# Altium footprint library Capacitor Tantalum Radial Bead.PcbLib: 37 footprints (part 2 of 3)
Each footprint in its own frame and in the unit in brackets; x right, y up, seen from the top. Pads: shape width x height; smd on the part's side, far side on the other; paste and mask are expansions set on the pad; w line width, h text height; cw(c..) or ccw(c..) is an arc to the next point about the centre after c.
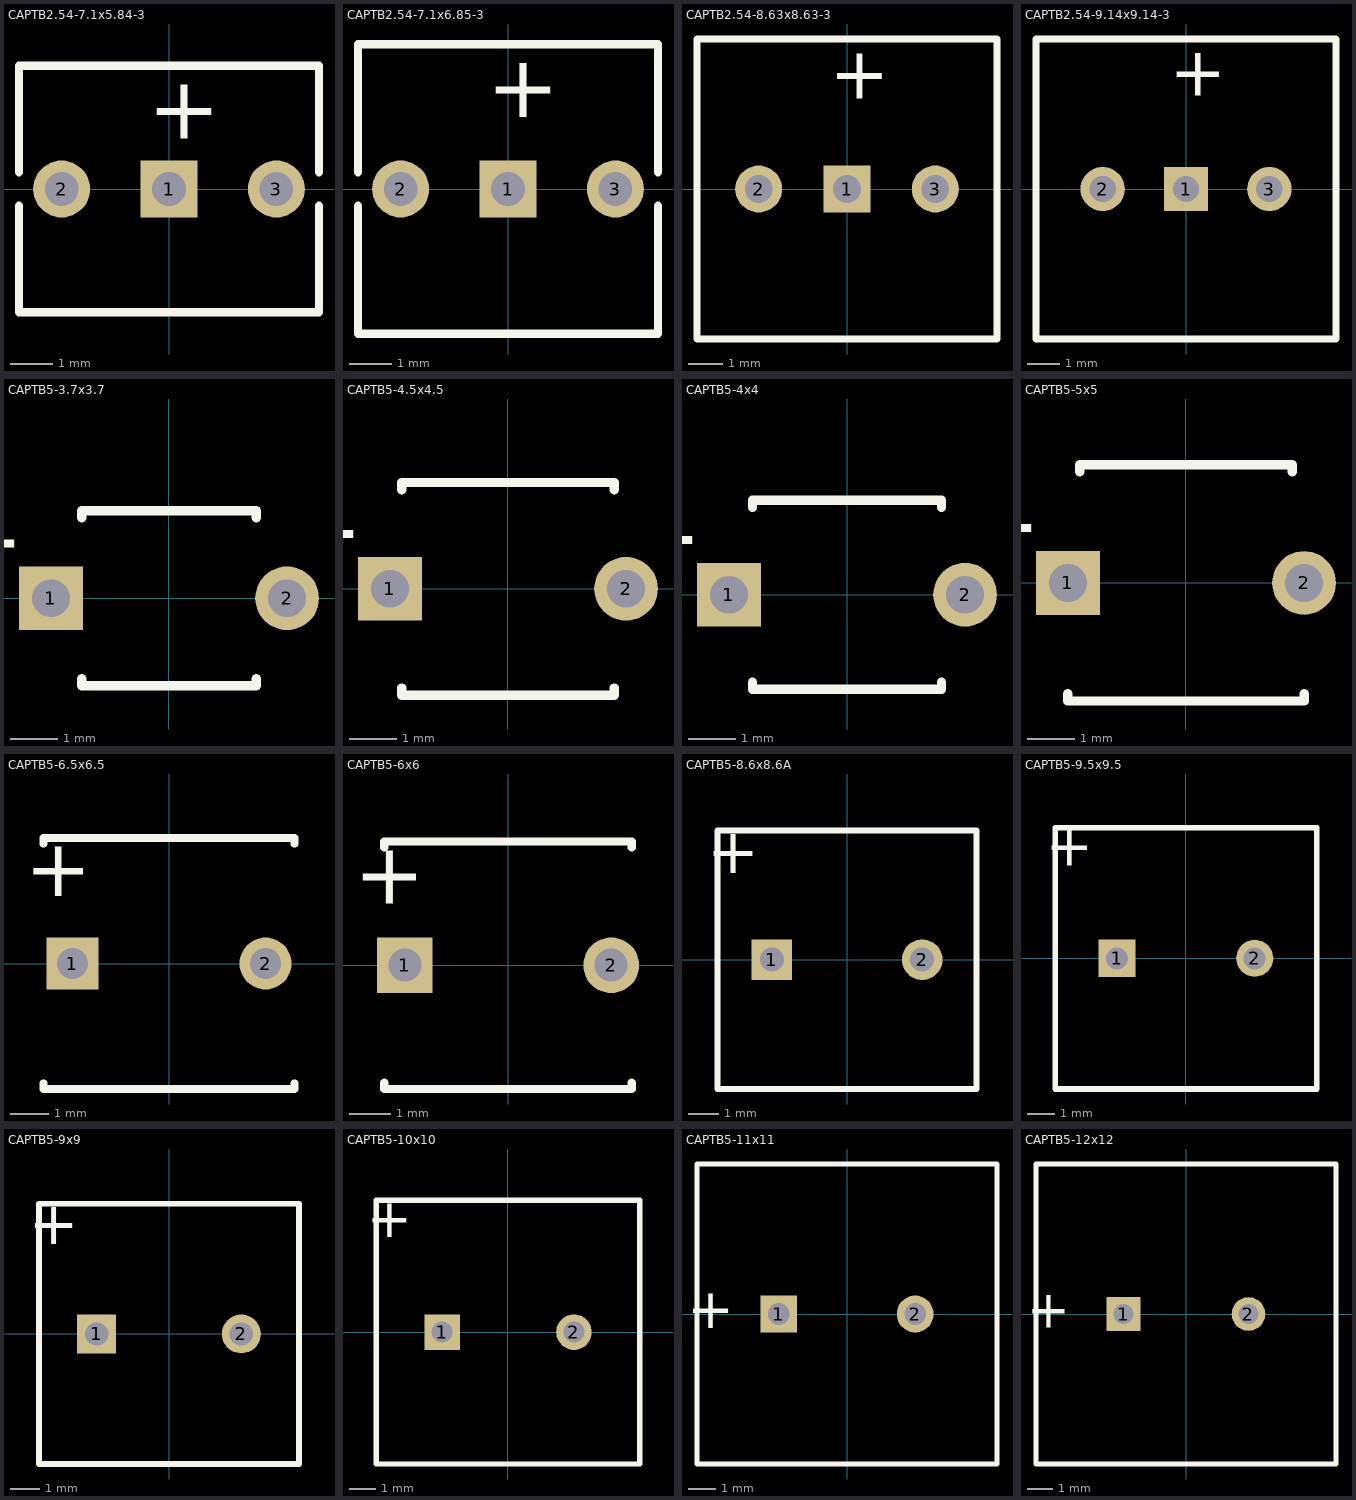
[diagram p1: the footprints below, top view; thin cyan lines are the x and y axes]

## CAPTB2.54-7.1x5.84-3 [mm] "Capacitor, Tantalum Bead, Triple Lead; Body 7.1 x 5.84 x 9.65 mm (WxTxH max); Pin Spacing 2.54 mm (typ)"
height 9.65
pads (3):
  rect 1.35x1.35 hole 0.8: 1(0,0)
  round 1.35 hole 0.8: 2(-2.54,0) 3(2.54,0)
Top Overlay:
  lines w0.2: -3.55,-0.4 -3.55,-2.92 3.55,-2.92 3.55,-0.4 ; -3.55,0.4 -3.55,2.92 3.55,2.92 3.55,0.4
  text "+" at -0.5,1.19 h1.5

## CAPTB2.54-7.1x6.85-3 [mm] "Capacitor, Tantalum Bead, Triple Lead; Body 7.1 x 6.85 x 11.17 mm (WxTxH max); Pin Spacing 2.54 mm (typ)"
height 11.17
pads (3):
  rect 1.35x1.35 hole 0.8: 1(0,0)
  round 1.35 hole 0.8: 2(-2.54,0) 3(2.54,0)
Top Overlay:
  lines w0.2: -3.55,-0.4 -3.55,-3.425 3.55,-3.425 3.55,-0.4 ; -3.55,0.4 -3.55,3.425 3.55,3.425 3.55,0.4
  text "+" at -0.5,1.7 h1.5

## CAPTB2.54-8.63x8.63-3 [mm] "Capacitor, Tantalum Bead, Triple Lead; Body 8.63 x 8.63 x 14.22 mm (WxTxH max); Pin Spacing 2.54 mm (typ)"
height 14.22
pads (3):
  rect 1.35x1.35 hole 0.8: 1(0,0)
  round 1.35 hole 0.8: 2(-2.54,0) 3(2.54,0)
Top Overlay:
  lines w0.2: -4.315,-4.315 4.315,-4.315 4.315,4.315 -4.315,4.315 -4.315,-4.315
  text "+" at -0.5,2.59 h1.5

## CAPTB2.54-9.14x9.14-3 [mm] "Capacitor, Tantalum Bead, Triple Lead; Body 9.14 x 9.14 x 15.74 mm (WxTxH max); Pin Spacing 2.54 mm (typ)"
height 15.74
pads (3):
  rect 1.35x1.35 hole 0.8: 1(0,0)
  round 1.35 hole 0.8: 2(-2.54,0) 3(2.54,0)
Top Overlay:
  lines w0.2: -4.57,-4.57 -4.57,4.57 4.57,4.57 4.57,-4.57 -4.57,-4.57
  text "+" at -0.499,2.84 h1.5

## CAPTB5-3.7x3.7 [mm] "Capacitor, Tantalum Bead; Body 3.7 x 9.5 mm (Dia.xH max); Pin Spacing 5.0 mm (typ)"
height 9.5
pads (2):
  rect 1.35x1.35 hole 0.8: 1(-2.5,0)
  round 1.35 hole 0.8: 2(2.5,0)
Top Overlay:
  lines w0.2: -1.85,-1.7 -1.85,-1.85 1.85,-1.85 1.85,-1.7 ; -1.85,1.7 -1.85,1.85 1.85,1.85 1.85,1.7
  text "+" at -3.05,1.8 h1.5

## CAPTB5-4.5x4.5 [mm] "Capacitor, Tantalum Bead; Body 4.5 x 10.5 mm (Dia.xH max); Pin Spacing 5.0 mm (typ)"
height 10.5
pads (2):
  rect 1.35x1.35 hole 0.8: 1(-2.5,0)
  round 1.35 hole 0.8: 2(2.5,0)
Top Overlay:
  lines w0.2: -2.25,-2.1 -2.25,-2.25 2.25,-2.25 2.25,-2.1 ; -2.25,2.1 -2.25,2.25 2.25,2.25 2.25,2.1
  text "+" at -3.05,1.8 h1.5

## CAPTB5-4x4 [mm] "Capacitor, Tantalum Bead; Body 4 x 10 mm (Dia.xH max); Pin Spacing 5.0 mm (typ)"
height 10
pads (2):
  rect 1.35x1.35 hole 0.8: 1(-2.5,0)
  round 1.35 hole 0.8: 2(2.5,0)
Top Overlay:
  lines w0.2: -2,-1.85 -2,-2 2,-2 2,-1.85 ; -2,1.85 -2,2 2,2 2,1.85
  text "+" at -3.05,1.8 h1.5

## CAPTB5-5x5 [mm] "Capacitor, Tantalum Bead; Body 5 x 11.5 mm (Dia.xH max); Pin Spacing 5.0 mm (typ)"
height 11.5
pads (2):
  rect 1.35x1.35 hole 0.8: 1(-2.5,0)
  round 1.35 hole 0.8: 2(2.5,0)
Top Overlay:
  lines w0.2: -2.5,-2.35 -2.5,-2.5 2.5,-2.5 2.5,-2.35 ; -2.25,2.35 -2.25,2.5 2.25,2.5 2.25,2.35
  text "+" at -3.05,1.8 h1.5

## CAPTB5-6.5x6.5 [mm] "Capacitor, Tantalum Bead; Body 6.5 x 12 mm (Dia.xH max); Pin Spacing 2.5 mm (typ)"
height 12
pads (2):
  rect 1.35x1.35 hole 0.8: 1(-2.5,0)
  round 1.35 hole 0.8: 2(2.5,0)
Top Overlay:
  lines w0.2: -3.25,-3.1 -3.25,-3.25 3.25,-3.25 3.25,-3.1 ; -3.25,3.1 -3.25,3.25 3.25,3.25 3.25,3.1
  text "+" at -2,3.02 h1.5

## CAPTB5-6x6 [mm] "Capacitor, Tantalum Bead; Body 6 x 11 mm (Dia.xH max); Pin Spacing 2.5 mm (typ)"
height 11
pads (2):
  rect 1.35x1.35 hole 0.8: 1(-2.5,0)
  round 1.35 hole 0.8: 2(2.5,0)
Top Overlay:
  lines w0.2: -3,-2.85 -3,-3 3,-3 3,-2.85 ; -3,2.85 -3,3 3,3 3,2.85
  text "+" at -2,2.77 h1.5

## CAPTB5-8.6x8.6A [mm] "Capacitor, Tantalum Bead; Body 8.6 x 12.5 mm (Dia.xH max); Pin Spacing 5.0 mm (typ)"
height 12.5
pads (2):
  rect 1.35x1.35 hole 0.8: 1(-2.5,0)
  round 1.35 hole 0.8: 2(2.5,0)
Top Overlay:
  lines w0.2: -4.3,-4.3 4.3,-4.3 4.3,4.3 -4.3,4.3 -4.3,-4.3
  text "+" at -2.925,4.175 h1.5

## CAPTB5-9.5x9.5 [mm] "Capacitor, Tantalum Bead; Body 9.5 x 15 mm (Dia.xH max); Pin Spacing 5.0 mm (typ)"
height 15
pads (2):
  rect 1.35x1.35 hole 0.8: 1(-2.5,0)
  round 1.35 hole 0.8: 2(2.5,0)
Top Overlay:
  lines w0.2: -4.747,-4.75 -4.747,4.75 4.753,4.75 4.753,-4.75 -4.747,-4.75
  text "+" at -3.375,4.652 h1.5

## CAPTB5-9x9 [mm] "Capacitor, Tantalum Bead; Body 9 x 14 mm (Dia.xH max); Pin Spacing 5.0 mm (typ)"
height 14
pads (2):
  rect 1.35x1.35 hole 0.8: 1(-2.5,0)
  round 1.35 hole 0.8: 2(2.5,0)
Top Overlay:
  lines w0.2: -4.5,-4.5 -4.5,4.5 4.5,4.5 4.5,-4.5 -4.5,-4.5
  text "+" at -3.125,4.375 h1.5

## CAPTB5-10x10 [mm] "Capacitor, Tantalum Bead; Body 10 x 14.5 mm (Dia.xH max); Pin Spacing 5.0 mm (typ)"
height 14.5
pads (2):
  rect 1.35x1.35 hole 0.8: 1(-2.5,0)
  round 1.35 hole 0.8: 2(2.5,0)
Top Overlay:
  lines w0.2: -5,-5 5,-5 5,5 -5,5 -5,-5
  text "+" at -3.625,4.875 h1.5

## CAPTB5-11x11 [mm] "Capacitor, Tantalum Bead; Body 11 x 16 mm (Dia.xH max); Pin Spacing 5.0 mm (typ)"
height 16
pads (2):
  rect 1.35x1.35 hole 0.8: 1(-2.5,0)
  round 1.35 hole 0.8: 2(2.5,0)
Top Overlay:
  lines w0.2: -5.5,-5.5 -5.5,5.5 5.5,5.5 5.5,-5.5 -5.5,-5.5
  text "+" at -4.125,0.75 h1.5

## CAPTB5-12x12 [mm] "Capacitor, Tantalum Bead; Body 12 x 22 mm (Dia.xH max); Pin Spacing 5.0 mm (typ)"
height 22
pads (2):
  rect 1.35x1.35 hole 0.8: 1(-2.5,0)
  round 1.35 hole 0.8: 2(2.5,0)
Top Overlay:
  lines w0.2: -6,-6 6,-6 6,6 -6,6 -6,-6
  text "+" at -4.625,0.75 h1.5